# Altium schematic symbol library SCH - Interface - EHT - 7499110123.SCHLIB: 1 symbol
Pins are listed as number, name and electrical type; pins without a type are passive.

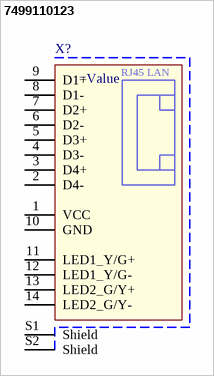
[diagram p0: symbol 7499110123]

## 7499110123
designator X?
WE-RJ45 LAN Transformer, 10/100/1000 Base-T, THT, Port 1x1, Tab Vertical
pins: 1 VCC, 2 D4-, 3 D4+, 4 D3-, 5 D3+, 6 D2-, 7 D2+, 8 D1-, 9 D1+, 10 GND, 11 LED1_Y/G+, 12 LED1_Y/G-, 13 LED2_G/Y+, 14 LED2_G/Y-, S1 Shield, S2 Shield
text: RJ45 LAN